# Altium schematic symbol library Power.SchLib: 43 symbols
Pins are listed as number, name and electrical type; pins without a type are passive.

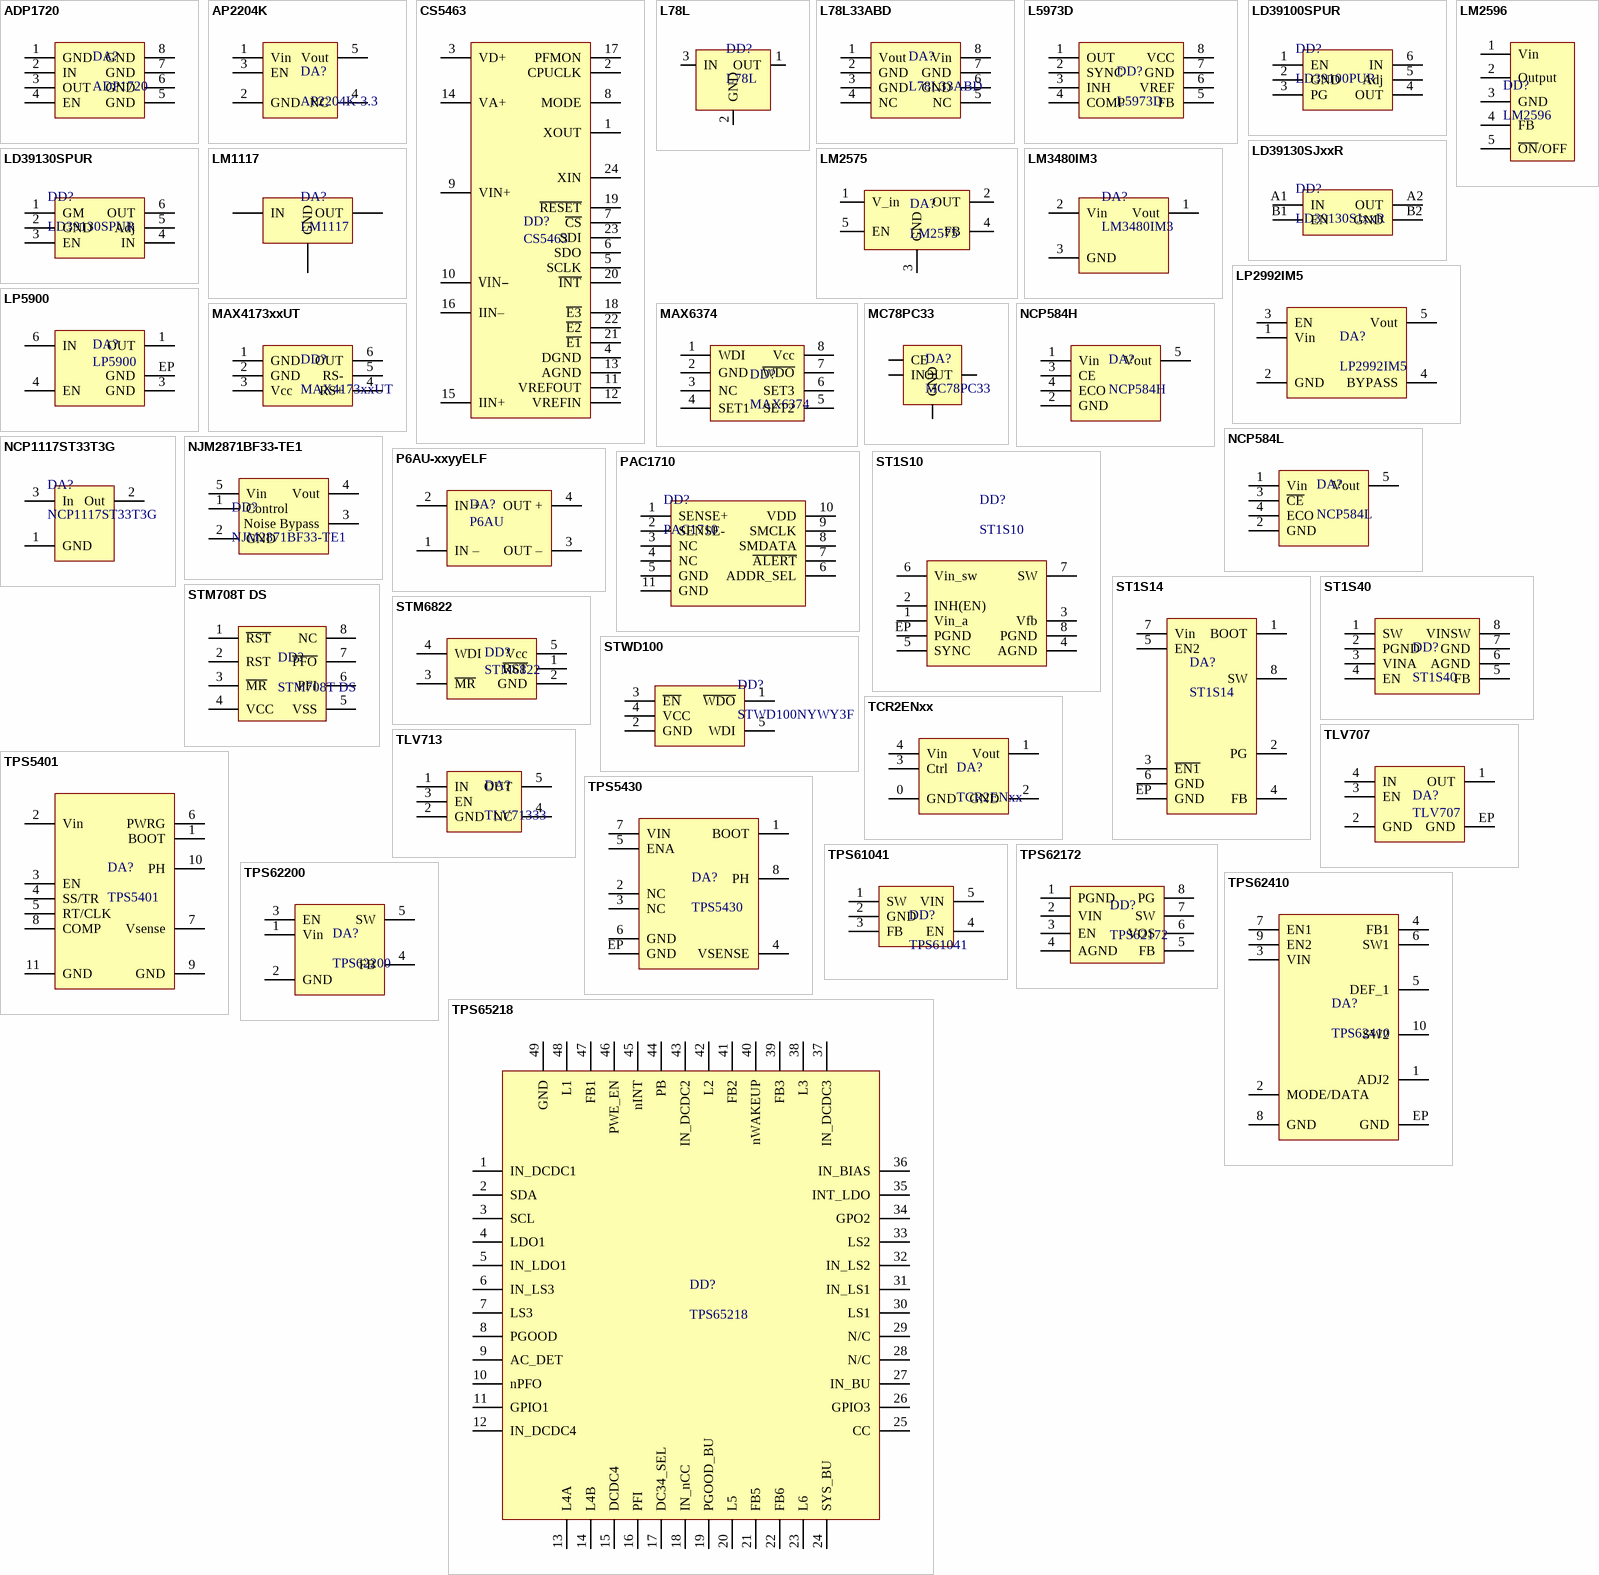
[diagram p0: symbols ADP1720 to TPS65218]

## ADP1720
designator DA?
ADP1720ARMZ-3.3
footprint MSOP-8
pins: 1 GND, 2 IN, 3 OUT, 4 EN, 5 GND, 6 GND, 7 GND, 8 GND

## AP2204K
designator DA?, comment AP2204K-3.3
AP2204K-3.3TRG1DITR-ND LDO 3.3V
footprint SOT-23-5
pins: 1 Vin, 2 GND, 3 EN, 4 NC, 5 Vout

## CS5463
designator DD?
Power/Energy metering IC
footprint TSSOP-24
pins: 1 XOUT, 2 CPUCLK, 3 VD+, 4 DGND, 5 SCLK, 6 SDO, 7 ~{CS}, 8 MODE, 9 VIN+, 10 VIN‒, 11 VREFOUT, 12 VREFIN, 13 AGND, 14 VA+, 15 IIN+, 16 IIN–, 17 PFMON, 18 ~{E3}, 19 ~{RESET}, 20 ~{INT}, 21 ~{E1}, 22 ~{E2}, 23 SDI, 24 XIN

## L78L
designator DD?
Linear positive voltage regulator
footprint SOT-89
pins: 1 OUT, 2 GND, 3 IN

## L78L33ABD
designator DA?
ST LDO 3.3V L78L33ABD
footprint SOIC-8
pins: 1 Vout, 2 GND, 3 GND, 4 NC, 5 NC, 6 GND, 7 GND, 8 Vin

## L5973D
designator DD?
2.5A step-down DC-DC
footprint HSOP-8EP
pins: 1 OUT (power), 2 SYNC (power), 3 INH (power), 4 COMP (power), 5 FB (power), 6 VREF (power), 7 GND (power), 8 VCC (power)

## LD39100SPUR
designator DD?, comment LD39100PUR
ST LDO Adjustable DFN6
footprint DFN-6 1.2x1.3
pins: 1 EN, 2 GND, 3 PG, 4 OUT, 5 Adj, 6 IN

## LD39130SJxxR
designator DD?
ST LDO Fixed CSP4
footprint CSP-4
pins: A1 IN, A2 OUT, B1 EN, B2 GND

## LD39130SPUR
designator DD?
ST LDO Adjustable DFN6
footprint DFN-6 1.2x1.3
pins: 1 GM, 2 GND, 3 EN, 4 IN, 5 Adj, 6 OUT

## LM1117
designator DA?
3.3V 800mA LDO
footprint SOT-223
pins: 1 GND, 2 OUT, 3 IN

## LM2575
designator DA?
DC-DC converter
footprint TO-220-5
pins: 1 V_in (power), 2 OUT (power), 3 GND (power), 4 FB (power), 5 EN (power)

## LM2596
designator DD?
DC-DC converter
footprint TO-263
pins: 1 Vin, 2 Output, 3 GND, 4 FB, 5 ~{ON}/OFF

## LM3480IM3
designator DA?
TI Quazi-LDO
footprint SOT-23-3
pins: 1 Vout, 2 Vin, 3 GND

## LP2992IM5
designator DA?
TI LDO
footprint SOT-23-5
pins: 1 Vin, 2 GND, 3 EN, 4 BYPASS, 5 Vout

## LP5900
designator DA?
TI Ultra Low-Noise 150mA LDO
footprint WSON-6
pins: 1 OUT, 3 GND, 4 EN, 6 IN, EP GND

## MAX4173xxUT
designator DD?
MAX4173 current measurement IC SOT-23-6
footprint SOT-23-6
pins: 1 GND, 2 GND, 3 Vcc, 4 RS+, 5 RS-, 6 OUT

## MAX6374
designator DD?
Watchdog
footprint SOT-23-8
pins: 1 WDI, 2 GND, 3 NC, 4 SET1, 5 SET2, 6 SET3, 7 ~{WDO}, 8 Vcc

## MC78PC33
designator DA?
3.3V 150mA LDO
footprint SOT-23-5
pins: 1 IN, 2 GND, 3 CE, 5 OUT

## NCP584H
designator DA?
ONSemi LDO
footprint SOT-23-5
pins: 1 Vin, 2 GND, 3 CE, 4 ECO, 5 Vout

## NCP584L
designator DA?
ONSemi LDO
footprint SOT-23-5
pins: 1 Vin, 2 GND, 3 ~{CE}, 4 ECO, 5 Vout

## NCP1117ST33T3G
designator DA?
footprint SOT-223
pins: 1 GND, 2 Out, 3 In

## NJM2871BF33-TE1
designator DD?
3.3V 150mA ldo
footprint SOT-23-5
pins: 1 Control, 2 GND, 3 Noise Bypass, 4 Vout, 5 Vin

## P6AU-xxyyELF
designator DA?, comment P6AU
1W DC-DC isolated converter
footprint SIL-4
pins: 1 IN –, 2 IN +, 3 OUT –, 4 OUT +

## PAC1710
designator DD?
SMSC High-Side currrent sense monitor with power calculations
footprint DFN-10 3x3
pins: 1 SENSE+, 2 SENSE-, 3 NC, 4 NC, 5 GND, 6 ADDR_SEL, 7 ~{ALERT}, 8 SMDATA, 9 SMCLK, 10 VDD, 11 GND

## ST1S10
designator DD?
ST DC-DC Converter
footprint SO-8EP
footprint DFN-8 4x4
pins: 1 Vin_a, 2 INH(EN), 3 Vfb, 4 AGND, 5 SYNC, 6 Vin_sw, 7 SW, 8 PGND, EP PGND

## ST1S14
designator DA?
ST DC-DC converter
footprint SO-8EP
pins: 1 BOOT, 2 PG, 3 ~{EN1}, 4 FB, 5 EN2, 6 GND, 7 Vin, 8 SW, EP GND

## ST1S40
designator DD?
Buck controller
footprint SO-8
pins: 1 SW, 2 PGND, 3 VINA, 4 EN, 5 FB, 6 AGND, 7 GND, 8 VINSW

## STM708T DS
designator DD?
3V power supervisor
footprint TSSOP-8
footprint SO-8
pins: 1 ~{RST}, 2 RST, 3 ~{MR}, 4 VCC, 5 VSS, 6 PFI, 7 ~{PFO}, 8 NC

## STM6822
designator DD?
Supervisor + watchdog (cheap)
footprint SOT-23-5
pins: 1 ~{RST}, 2 GND, 3 ~{MR}, 4 WDI, 5 Vcc

## STWD100
designator DD?, comment STWD100NYWY3F
STWD100 watchdog 1.6s SOT32-5
footprint SOT-23-5
pins: 1 ~{WDO}, 2 GND, 3 ~{EN}, 4 VCC, 5 WDI

## TCR2ENxx
designator DA?
Toshiba TCR2EN series low-dropout LDO
footprint TCR2EN (Footprint not found)
pins: 0 GND, 1 Vout, 2 GND, 3 Ctrl, 4 Vin

## TLV707
designator DA?
TI 200 mA LDO
footprint X2SON
pins: 1 OUT, 2 GND, 3 EN, 4 IN, EP GND

## TLV713
designator DA?, comment TLV71333
TI LDO SOT-23-5
footprint SOT-23-5
pins: 1 IN, 2 GND, 3 EN, 4 NC, 5 OUT

## TPS5401
designator DA?
TI DC-DC converter 0.4A
footprint MSOP-10EP
pins: 1 BOOT, 2 Vin, 3 EN, 4 SS/TR, 5 RT/CLK, 6 PWRG, 7 Vsense, 8 COMP, 9 GND, 10 PH, 11 GND

## TPS5430
designator DA?
TI DC-DC Buck
footprint SO-8EP
pins: 1 BOOT, 2 NC, 3 NC, 4 VSENSE, 5 ENA, 6 GND, 7 VIN, 8 PH, EP GND

## TPS61041
designator DD?
TI LED driver / boost converter
footprint SOT-23-5
pins: 1 SW, 2 GND, 3 FB, 4 EN, 5 VIN

## TPS62172
designator DD?
3.3V DC-DC Step-Down
footprint S-PWSON-N8
pins: 1 PGND, 2 VIN, 3 EN, 4 AGND, 5 FB, 6 VOS, 7 SW, 8 PG

## TPS62200
designator DA?
TI DC-DC buck 300ma SOT-23-5 package
footprint SOT-23-5
pins: 1 Vin, 2 GND, 3 EN, 4 FB, 5 SW

## TPS62410
designator DA?
TI 2 channel DC-DC buck
footprint VSON-10
pins: 1 ADJ2, 2 MODE/DATA, 3 VIN, 4 FB1, 5 DEF_1, 6 SW1, 7 EN1, 8 GND, 9 EN2, 10 SW2, EP GND

## TPS65218
designator DD?
TPS65218 TI Power Management for Cortex-A8/A9 and FPGA
footprint S-PVQFN-48 (S-PVQFN 48pin TI package)
footprint QFN-48_6x6
pins: 1 IN_DCDC1, 2 SDA, 3 SCL, 4 LDO1, 5 IN_LDO1, 6 IN_LS3, 7 LS3, 8 PGOOD, 9 AC_DET, 10 nPFO, 11 GPIO1, 12 IN_DCDC4, 13 L4A, 14 L4B, 15 DCDC4, 16 PFI, 17 DC34_SEL, 18 IN_nCC, 19 PGOOD_BU, 20 L5, 21 FB5, 22 FB6, 23 L6, 24 SYS_BU, 25 CC, 26 GPIO3, 27 IN_BU, 28 N/C, 29 N/C, 30 LS1, 31 IN_LS1, 32 IN_LS2, 33 LS2, 34 GPO2, 35 INT_LDO, 36 IN_BIAS, 37 IN_DCDC3, 38 L3, 39 FB3, 40 nWAKEUP, 41 FB2, 42 L2, 43 IN_DCDC2, 44 PB, 45 nINT, 46 PWE_EN, 47 FB1, 48 L1, 49 GND

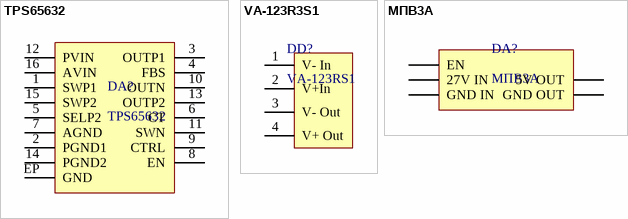
[diagram p1: symbols TPS65632 to МПВ3А]

## TPS65632
designator DA?
TI OLED PMIC
footprint WQFN-16
pins: 1 SWP1, 2 PGND1, 3 OUTP1, 4 FBS, 5 SELP2, 6 CT, 7 AGND, 8 EN, 9 CTRL, 10 OUTN, 11 SWN, 12 PVIN, 13 OUTP2, 14 PGND2, 15 SWP2, 16 AVIN, EP GND

## VA-123R3S1
designator DD?, comment VA-123RS1
DC-DC Converter module
footprint SIL-4
pins: 1 V- In, 2 V+In, 3 V- Out, 4 V+ Out

## МПВ3А
designator DA?
DC-DC converter
footprint МПВ3А
pins: 2 27V IN, 11 EN, 14 5V OUT, 16 GND OUT, 22 GND IN